# Altium schematic symbol library CL05B104KO5NNNC.SchLib: 1 symbol
Pins are listed as number, name and electrical type; pins without a type are passive.

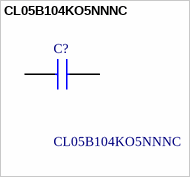
[diagram p0: symbol CL05B104KO5NNNC]

## CL05B104KO5NNNC
designator C?
Samsung Electro-Mechanics CL05B104KO5NNNC 100nF Multilayer Ceramic Capacitor MLCC 16V dc +/-10% Tolerance SMD; Geometry.Height: 0.55mm; Manufacturer_Name: SAMSUNG; Manufacturer_Part_Number: CL05B104KO5NNNC; Mouser Part Number: 187-CL05B104KO5NNNC; Mouser Price/Stock: https://www.mouser.co.uk/ProductDetail/Samsung-Electro-Mechanics/CL05B104KO5NNNC?qs=hqM3L16%252BxlfT2SKOuAUq6Q%3D%3D; Arrow Part Number: CL05B104KO5NNNC; Arrow Price/Stock: https://www.arrow.com/en/products/cl05b104ko5nnnc/samsung-electro-mechanics?utm_currency=USD&region=nac; Datasheet Link: https://datasheet.datasheetarchive.com/originals/distributors/Datasheets-DGA10/2408147.pdf
footprint CAPC1005X55N
pins: 1, 2